# Altium footprint library STM32.PcbLib: 68 footprints (part 1 of 5)
Each footprint in its own frame and in the unit in brackets; x right, y up, seen from the top. Pads: shape width x height; smd on the part's side, far side on the other; paste and mask are expansions set on the pad; w line width, h text height; cw(c..) or ccw(c..) is an arc to the next point about the centre after c.
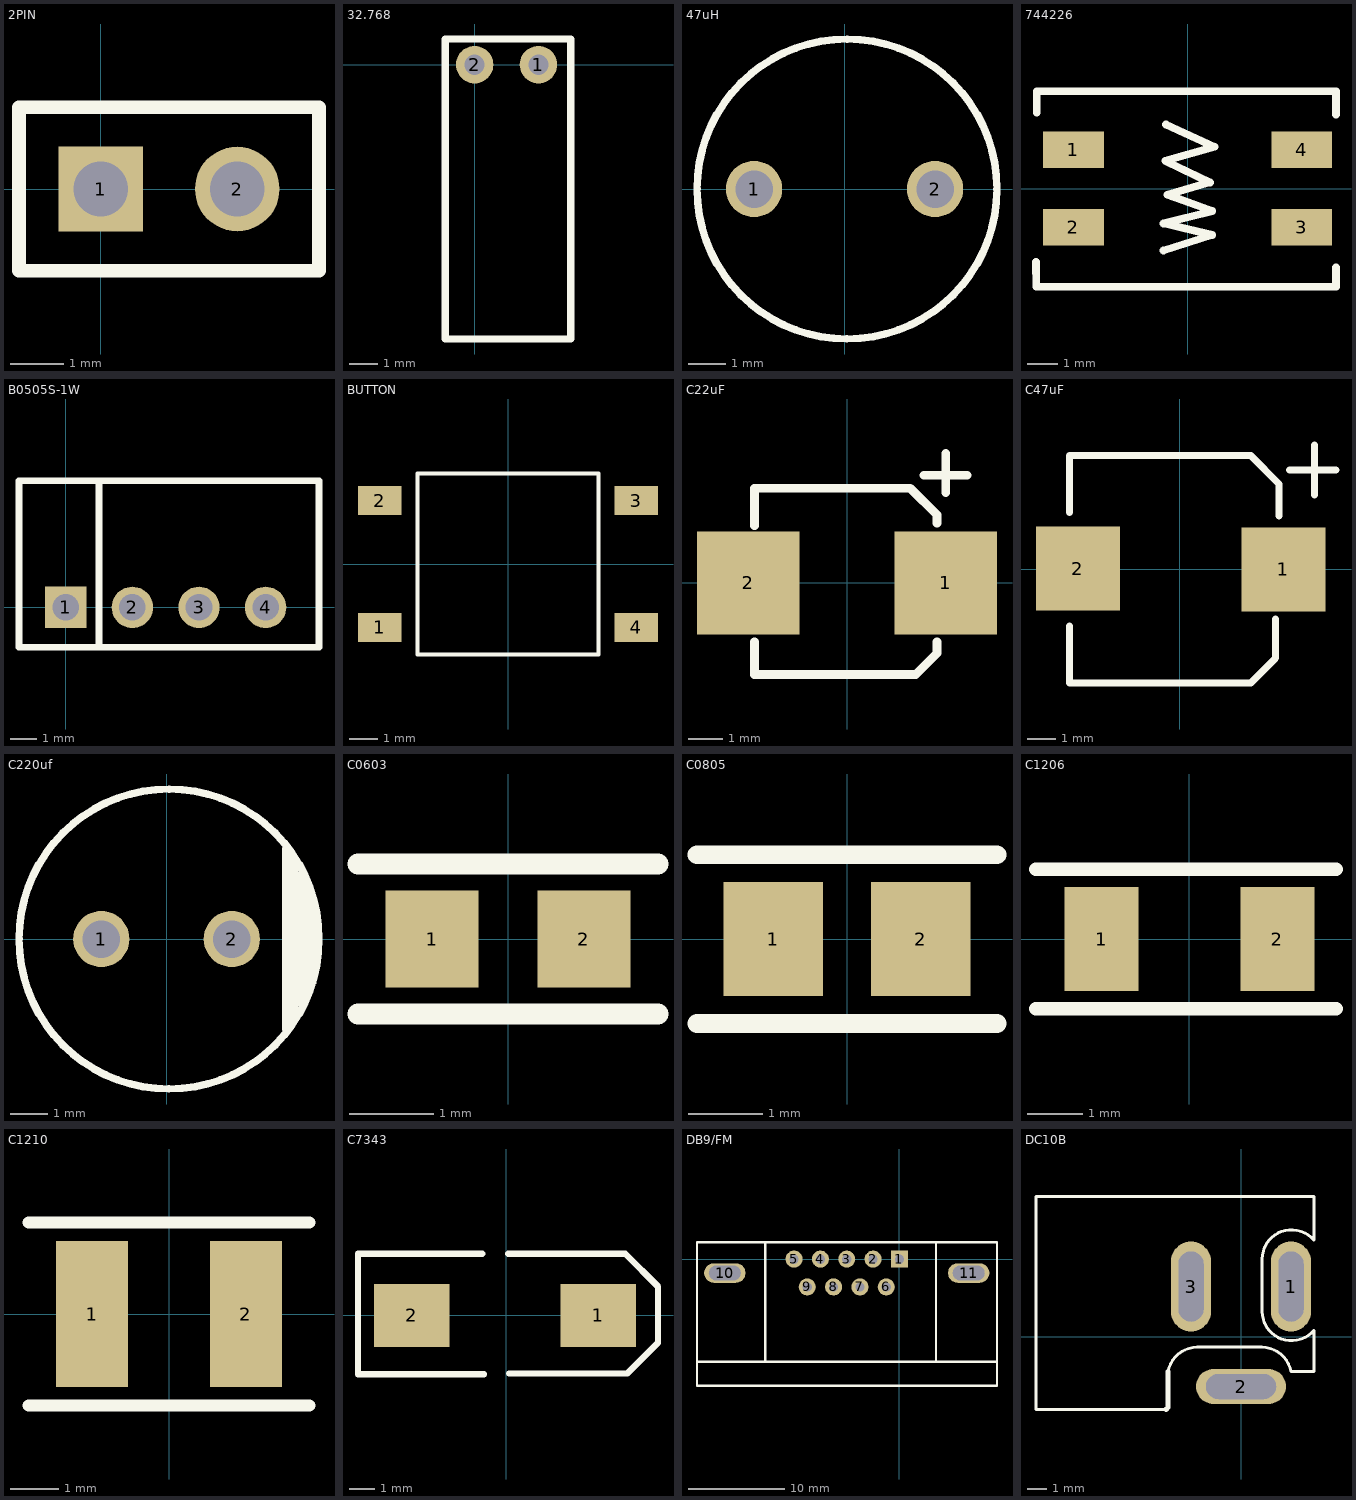
[diagram p0: the footprints below, top view; thin cyan lines are the x and y axes]

## 2PIN [mil]
pads (2):
  rect 62x62 hole 40: 1(0,0)
  round 62 hole 40: 2(100,0)
Top Overlay:
  lines w10: -60,-60 -60,60 160,60 160,-60 -60,-60

## 32.768 [mm]
pads (2):
  round 1.3 hole 0.7: 1(2.21,0) 2(0,0)
Top Overlay:
  lines w0.254: -1.016,-9.5 -1.016,0.889 3.327,0.889 3.327,-9.5 -1.016,-9.5

## 47uH [mm]
pads (2):
  round 1.5 hole 1: 1(-2.413,0) 2(2.413,0)
Top Overlay:
  circle w0.2: c0.064,0 r4

## 744226 [mm]
pads (4):
  rect 2x1.2 smd: 1(-3.75,1.27) 2(-3.75,-1.27) 3(3.75,-1.27) 4(3.75,1.27)
Top Overlay:
  lines w0.254: -4.978,-2.413 -4.974,-3.226 1.626,-3.226 4.877,-3.226 4.877,-2.591 ; -4.953,2.489 -4.953,3.2 -4.6,3.2 2,3.2 4.877,3.2 4.877,2.438 ; -0.787,-2.032 0.813,-1.524 -0.787,-1.143 0.813,-0.737 -0.66,-0.203 0.737,0.203 -0.737,0.914 0.889,1.372 -0.711,2.108

## B0505S-1W [mil]
pads (4):
  rect 62x62 hole 40: 1(0,0)
  round 62 hole 40: 2(100,0) 3(200,0) 4(300,0)
Top Overlay:
  lines w10: 50,-60 50,0 50,190 ; -70,-60 -70,190 380,190 380,-60 -70,-60

## BUTTON [mil]
pads (4):
  rect 60x40 smd: 1(-177.17,-87.5) 2(-177.17,87.5) 3(177.17,87.5) 4(177.17,-87.5)
Top Overlay:
  lines w6: -125,-125 125,-125 125,125 -125,125 -125,-125

## C22uF [mm] "表贴铝电解电容 C尺寸"
pads (2):
  rect 3x3 smd: 1(2.883,0) 2(-2.883,0)
Top Overlay:
  lines w0.254: -2.705,-1.725 -2.705,-2.675 2.011,-2.675 2.629,-2.057 2.629,-1.725 ; -2.705,1.675 -2.705,2.769 1.85,2.769 2.629,1.99 2.629,1.753 ; 2.248,3.15 3.518,3.15 ; 2.883,2.642 2.883,3.785

## C47uF [mm]
pads (2):
  rect 3x3 smd: 1(3.708,0) 2(-3.632,0.025)
Top Overlay:
  lines w0.254: -3.937,-2.032 -3.937,-4.064 2.54,-4.064 3.429,-3.175 3.429,-1.778 ; -3.937,2.032 -3.937,4.064 2.54,4.064 3.556,3.048 3.556,1.905 ; 3.937,3.556 5.588,3.556 ; 4.826,2.667 4.826,4.445

## C220uf [mm]
pads (2):
  round 1.5 hole 1: 1(-1.74,0) 2(1.74,0)
Top Overlay:
  circle w0.2: c0.064,0 r4
  rectangle: 3.7,-1.199 4,1.101
  rectangle: 3.602,-1.5 3.802,1.4
  rectangle: 3.5,-1.799 3.7,1.801
  rectangle: 3.2,-2.198 3.5,2.102
  lines w0.254: 3.2,-2.4 3.2,2.4

## C0603 [mm]
pads (2):
  rect 1.1x1.15 smd: 1(-0.9,0) 2(0.9,0)
Top Overlay:
  lines w0.254: -1.778,-0.889 1.778,-0.889 ; -1.778,0.889 1.778,0.889

## C0805 [mm]
pads (2):
  rect 1.35x1.55 smd: 1(-1,0) 2(1,0)
Top Overlay:
  lines w0.254: -2.032,-1.143 2.032,-1.143 ; -2.032,1.143 2.032,1.143

## C1206 [mm]
pads (2):
  rect 1.35x1.9 smd: 1(-1.6,0) 2(1.6,0)
Top Overlay:
  lines w0.254: -2.794,-1.27 2.667,-1.27 ; -2.794,1.27 2.667,1.27

## C1210 [mm]
pads (2):
  rect 1.5x3.05 smd: 1(-1.6,0) 2(1.6,0)
Top Overlay:
  lines w0.254: -2.921,-1.905 2.921,-1.905 ; -2.921,1.905 2.921,1.905

## C7343 [mm]
pads (2):
  rect 3x2.5 smd: 1(3.65,0) 2(-3.752,0)
Top Overlay:
  lines w0.254: -0.965,2.438 -5.893,2.438 -5.893,-0.102 -5.893,-2.337 -0.889,-2.337 ; 0.076,2.438 4.724,2.438 6.02,1.143 6.02,-1.092 4.801,-2.311 0.102,-2.311

## DB9/FM [mil]
pads (11):
  rect 70x70 hole 38: 1(0,0)
  round 70 hole 38: 2(-108,0) 3(-216,0) 4(-324,0) 5(-432,0) 6(-54,-114) 7(-162,-114) 8(-270,-114) 9(-378,-114)
  oval 170x80 hole 60 slot 130 at 0 deg: 10(-716,-57) 11(284,-57)
Top Overlay:
  lines w10: -830,-420 400,-420 ; -550,-420 -550,70 ; 150,-420 150,70 ; -830,-520 -830,70 400,70 400,-520 -830,-520

## DC10B [mil]
pads (3):
  oval 80x180 hole 50 slot 140 at 90 deg: 1(100,100) 3(-100,100)
  oval 180x70 hole 50 slot 140 at 0 deg: 2(0,-100)
Top Overlay:
  lines w6: -150,-146 -410,-146 -410,280 146,280 145.83,192.62 ccw(c101,155) 42.48,155 42.48,50 ccw(c101,50) 145.83,12.38 ; -145.63,-69.84 cw(c-88,-80) -88,-21.48 42,-21.48 cw(c42,-80) 99.63,-69.84 ; -85.48,50 -85.48,155 ; 101,-70 146,-70 146,10 ; -85.48,155 -85.48,155
  lines w10: -150,-146 -145.63,-141.63 -145.63,-69.84